# EAGLE library part SKY13588-460LF (library SKY13588-460LF)
RF Switch ICs .1-6GHz SP3T IL .45dB -40C +105C Source: Datasheet <https://www.skyworksinc.com/-/media/SkyWorks/Documents/Products/2201-2300/SKY13588_460LF_203512D.pdf>
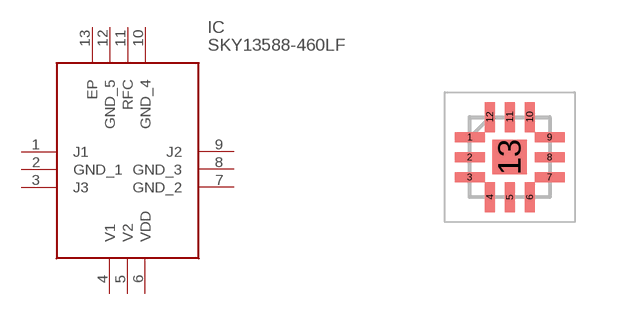
[diagram p0: symbol with the pads of QFN50P200X200X65-13N; footprint QFN50P200X200X65-13N]

Designator prefix IC

## SKY13588-460LF (Description: RF Switch ICs .1-6GHz SP3T IL .45dB -40C +105C; Height: 0.65mm; Manufacturer_Name: Skyworks; Manufacturer_Part_Number: SKY13588-460LF; Mouser_Part_Number: 873-SKY13588-460LF; Mouser_Price-Stock: https://www.mouser.co.uk/ProductDetail/Skyworks-Solutions-Inc/SKY13588-460LF?qs=Xy3FNZO%2FEu8q7ADFn9Z8ag%3D%3D)  [QFN50P200X200X65-13N]
1  J1
2  GND_1
3  J3
4  V1
5  V2
6  VDD
7  GND_2
8  GND_3
9  J2
10  GND_4
11  RFC
12  GND_5
13  EP

## Footprint QFN50P200X200X65-13N (pad centres in mm)
Small QFN (12-pin, 2 × 2 × 0.55 mm)
smd 0.75 x 0.25: 1 -1,0.5; 2 -1,0; 3 -1,-0.5; 7 1,-0.5; 8 1,0; 9 1,0.5
smd 0.25 x 0.75: 4 -0.5,-1; 5 0,-1; 6 0.5,-1; 10 0.5,1; 11 0,1; 12 -0.5,1
smd 0.86 x 0.86: 13 0,0